# Altium footprint library parts.PCBLIB: 93 footprints (part 3 of 6)
Each footprint in its own frame and in the unit in brackets; x right, y up, seen from the top. Pads: shape width x height; smd on the part's side, far side on the other; paste and mask are expansions set on the pad; w line width, h text height; cw(c..) or ccw(c..) is an arc to the next point about the centre after c.
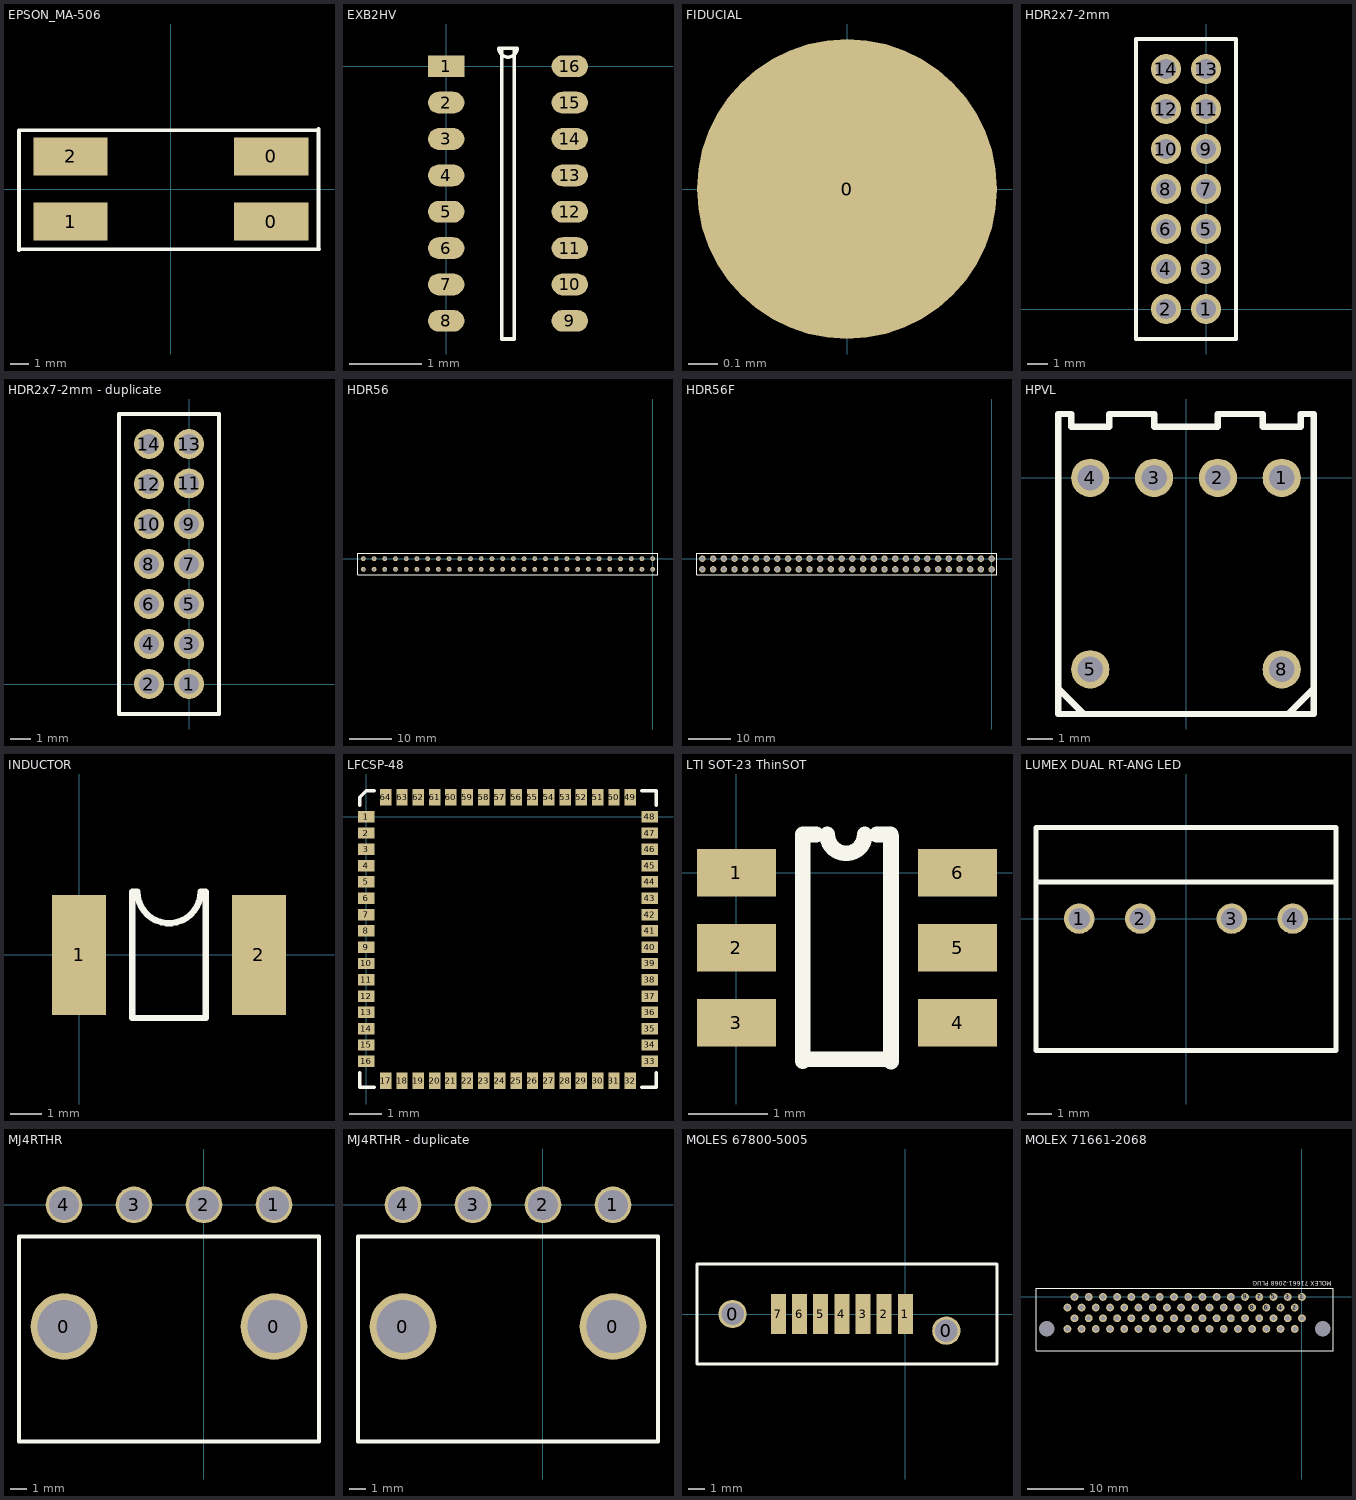
[diagram p2: the footprints below, top view; thin cyan lines are the x and y axes]

## EPSON_MA-506 [mm]
pads (4):
  rect 4.1x2.1 smd: 0(5.55,-1.8) 0(5.55,1.8) 1(-5.55,-1.8) 2(-5.55,1.8)
TopOverlay:
  lines w0.203: -8.41,-3.38 -8.41,3.25 8.08,3.25 8.16,3.33 8.16,-3.3 8.19,-3.33 -8.36,-3.33 -8.41,-3.38

## EXB2HV [mm]
pads (16):
  rect 0.5x0.3 smd: 1(0,0)
  oval 0.5x0.3 smd: 2(0,-0.5) 3(0,-1) 4(0,-1.5) 5(0,-2) 6(0,-2.5) 7(0,-3) 8(0,-3.5) 9(1.7,-3.5) 10(1.7,-3) 11(1.7,-2.5) 12(1.7,-2) 13(1.7,-1.5) 14(1.7,-1) 15(1.7,-0.5) 16(1.7,0)
TopOverlay:
  lines w0.05: 0.725,0.25 ccw(c0.85,0.25) 0.975,0.25 0.765,0.25 0.765,-3.75 0.935,-3.75 0.935,0.25 0.725,0.25

## FIDUCIAL [mil] "Fiducial footprint as recommended by PCBpro"
pads (1):
  round 40 smd paste-20 mask+30: 0(0,0)

## HDR2x7-2mm [mm]
pads (14):
  round 1.5 hole 1: 1(0,0) 2(-2,0) 3(0,2) 4(-2,2) 5(0,4) 6(-2,4) 7(0,6) 8(-2,6) 9(0,8) 10(-2,8) 11(0,10) 12(-2,10) 13(0,12) 14(-2,12)
TopOverlay:
  lines w0.2: -3.5,-1.5 -3.5,13.5 1.5,13.5 1.5,-1.5 -3.5,-1.5

## HDR2x7-2mm - duplicate [mm]
pads (14):
  round 1.5 hole 1: 1(0,0) 2(-2,0) 3(0,2) 4(-2,2) 5(0,4) 6(-2,4) 7(0,6) 8(-2,6) 9(0,8) 10(-2,8) 11(0,10.033) 12(-2,10) 13(0,12) 14(-2,12)
TopOverlay:
  lines w0.2: -3.5,-1.5 -3.5,13.5 1.5,13.5 1.5,-1.5 -3.5,-1.5

## HDR56 [mil]
pads (56):
  round 45 hole 28: 1(0,0) 2(0,-100) 3(-100,0) 4(-100,-100) 5(-200,0) 6(-200,-100) 7(-300,0) 8(-300,-100) 9(-400,0) 10(-400,-100) 11(-500,0) 12(-500,-100) 13(-600,0) 14(-600,-100) 15(-700,0) 16(-700,-100) 17(-800,0) 18(-800,-100) 19(-900,0) 20(-900,-100) 21(-1000,0) 22(-1000,-100) 23(-1100,0) 24(-1100,-100) 25(-1200,0) 26(-1200,-100) 27(-1300,0) 28(-1300,-100) 29(-1400,0) 30(-1400,-100) 31(-1500,0) 32(-1500,-100) 33(-1600,0) 34(-1600,-100) 35(-1700,0) 36(-1700,-100) 37(-1800,0) 38(-1800,-100) 39(-1900,0) 40(-1900,-100) 41(-2000,0) 42(-2000,-100) 43(-2100,0) 44(-2100,-100) 45(-2200,0) 46(-2200,-100) 47(-2300,0) 48(-2300,-100) 49(-2400,0) 50(-2400,-100) 51(-2500,0) 52(-2500,-100) 53(-2600,0) 54(-2600,-100) 55(-2700,0) 56(-2700,-100)
TopOverlay:
  lines w10: -2750,-150 -2750,50 50,50 50,-150 -2750,-150

## HDR56F [mil]
pads (56):
  round 60 hole 40: 1(0,-100) 2(0,0) 3(-100,-100) 4(-100,0) 5(-200,-100) 6(-200,0) 7(-300,-100) 8(-300,0) 9(-400,-100) 10(-400,0) 11(-500,-100) 12(-500,0) 13(-600,-100) 14(-600,0) 15(-700,-100) 16(-700,0) 17(-800,-100) 18(-800,0) 19(-900,-100) 20(-900,0) 21(-1000,-100) 22(-1000,0) 23(-1100,-100) 24(-1100,0) 25(-1200,-100) 26(-1200,0) 27(-1300,-100) 28(-1300,0) 29(-1400,-100) 30(-1400,0) 31(-1500,-100) 32(-1500,0) 33(-1600,-100) 34(-1600,0) 35(-1700,-100) 36(-1700,0) 37(-1800,-100) 38(-1800,0) 39(-1900,-100) 40(-1900,0) 41(-2000,-100) 42(-2000,0) 43(-2100,-100) 44(-2100,0) 45(-2200,-100) 46(-2200,0) 47(-2300,-100) 48(-2300,0) 49(-2400,-100) 50(-2400,0) 51(-2500,-100) 52(-2500,0) 53(-2600,-100) 54(-2600,0) 55(-2700,0) 56(-2700,-100)
TopOverlay:
  lines w10: -2750,-150 50,-150 50,50 -2750,50 -2750,-150

## HPVL [mil]
pads (6):
  round 60 hole 40: 1(150,0) 2(50,0) 3(-50,0) 4(-150,0) 5(-150,-300) 8(150,-300)
TopOverlay:
  lines w10: -200,-340 -200,0 ; -200,-330 -160,-370 ; -200,-300 -200,-370 200,-370 200,-340 200,0 200,100 180,100 180,80 120,80 120,100 50,100 50,80 -50,80 -50,100 -120,100 -120,80 -180,80 -180,100 -200,100 -200,-10 ; 160,-370 200,-330

## INDUCTOR [mm]
pads (2):
  rect 1.7x3.8 smd: 1(0,0) 2(5.7,0)
TopOverlay:
  lines w0.2: 1.685,-2 1.685,2 1.85,2 ccw(c2.85,2) 3.85,2 4.015,2 4.015,-2 1.685,-2

## LFCSP-48 [mm] "Lead-Frame Chip Scale Package, 48 pin, from Analog Devices"
pads (64):
  rect 0.5x0.35 smd: 1(0,0) 2(0,-0.5) 3(0,-1) 4(0,-1.5) 5(0,-2) 6(0,-2.5) 7(0,-3) 8(0,-3.5) 9(0,-4) 10(0,-4.5) 11(0,-5) 12(0,-5.5) 13(0,-6) 14(0,-6.5) 15(0,-7) 16(0,-7.5) 33(8.7,-7.5) 34(8.7,-7) 35(8.7,-6.5) 36(8.7,-6) 37(8.7,-5.5) 38(8.7,-5) 39(8.7,-4.5) 40(8.7,-4) 41(8.7,-3.5) 42(8.7,-3) 43(8.7,-2.5) 44(8.7,-2) 45(8.7,-1.5) 46(8.7,-1) 47(8.7,-0.5) 48(8.7,0)
  rect 0.35x0.5 smd: 17(0.6,-8.1) 18(1.1,-8.1) 19(1.6,-8.1) 20(2.1,-8.1) 21(2.6,-8.1) 22(3.1,-8.1) 23(3.6,-8.1) 24(4.1,-8.1) 25(4.6,-8.1) 26(5.1,-8.1) 27(5.6,-8.1) 28(6.1,-8.1) 29(6.6,-8.1) 30(7.1,-8.1) 31(7.6,-8.1) 32(8.1,-8.1) 49(8.1,0.6) 50(7.6,0.6) 51(7.1,0.6) 52(6.6,0.6) 53(6.1,0.6) 54(5.6,0.6) 55(5.1,0.6) 56(4.6,0.6) 57(4.1,0.6) 58(3.6,0.6) 59(3.1,0.6) 60(2.6,0.6) 61(2.1,0.6) 62(1.6,0.6) 63(1.1,0.6) 64(0.6,0.6)
TopOverlay:
  lines w0.1: -0.2,-7.85 -0.2,-8.3 0.25,-8.3 ; -0.2,0.35 -0.2,0.6 0,0.8 0.25,0.8 ; 8.45,-8.3 8.9,-8.3 8.9,-7.85 ; 8.45,0.8 8.9,0.8 8.9,0.35

## LTI SOT-23 ThinSOT [mm]
pads (6):
  rect 1x0.6 smd: 1(0,0) 2(0,-0.95) 3(0,-1.9) 4(2.8,-1.9) 5(2.8,-0.95) 6(2.8,0)
TopOverlay:
  lines w0.2: 0.838,-2.388 0.838,0.462 ; 0.838,-2.362 1.956,-2.362 ; 0.838,0.483 1.011,0.483 ; 1.151,0.483 ccw(c1.388,0.483) 1.626,0.483 ; 1.778,0.483 1.95,0.483 ; 1.956,-2.393 1.956,0.457

## LUMEX DUAL RT-ANG LED [mil] "Lumex Dual Right-angle LED holder for part SSF-LXH2100XX"
pads (4):
  round 50 hole 35: 1(-175.2,0) 2(-75,0) 3(75,0) 4(175.2,0)
TopOverlay:
  lines w8: -246.06,60 246.06,60 ; -246.06,-216.54 246.06,-216.54 246.06,149.61 -246.06,149.61 -246.06,-216.54

## MJ4RTHR [mm]
pads (6):
  round 4 hole 3.2: 0(-8.4,-7.3) 0(4.2,-7.3)
  round 2.2 hole 1.8: 1(4.2,0) 2(0,0) 3(-4.2,0) 4(-8.4,0)
TopOverlay:
  lines w0.254: -11.1,-14.2 -11.1,-1.9 6.9,-1.9 6.9,-14.2 -11.1,-14.2

## MJ4RTHR - duplicate [mm]
pads (6):
  round 4 hole 3.2: 0(-8.4,-7.3) 0(4.2,-7.3)
  round 2.2 hole 1.8: 1(4.2,0) 2(0,0) 3(-4.2,0) 4(-8.4,0)
TopOverlay:
  lines w0.254: -11.1,-14.2 6.9,-14.2 6.9,-1.9 -11.1,-1.9 -11.1,-14.2

## MOLES 67800-5005 [mm] "SATA vertical PCB HEADER SMT"
pads (9):
  round 1.7 hole 1.35: 0(-10.37,0) 0(2.46,-1)
  rect 0.9x2.4 smd: 1(0,0) 2(-1.27,0) 3(-2.54,0) 4(-3.81,0) 5(-5.08,0) 6(-6.35,0) 7(-7.62,0)
TopOverlay:
  lines w0.178: -12.5,-3 -12.5,3 5.5,3 5.5,-3 ; -12.5,-3 5.5,-3 ; -12.5,-3 5.5,-3

## MOLEX 71661-2068 [mil] "Moles 68-pin EBBI 50 mil right angle plug connector, same as U320 SCSI"
pads (70):
  round 46 hole 110: 0(-1796,-225) 0(146,-225)
  round 55 hole 35: 1(0,0) 2(-50,-75) 3(-100,0) 4(-150,-75) 5(-200,0) 6(-250,-75) 7(-300,0) 8(-350,-75) 9(-400,0) 10(-450,-75) 11(-500,0) 12(-550,-75) 13(-600,0) 14(-650,-75) 15(-700,0) 16(-750,-75) 17(-800,0) 18(-850,-75) 19(-900,0) 20(-950,-75) 21(-1000,0) 22(-1050,-75) 23(-1100,0) 24(-1150,-75) 25(-1200,0) 26(-1250,-75) 27(-1300,0) 28(-1350,-75) 29(-1400,0) 30(-1450,-75) 31(-1500,0) 32(-1550,-75) 33(-1600,0) 34(-1650,-75) 35(0,-150) 36(-50,-225) 37(-100,-150) 38(-150,-225) 39(-200,-150) 40(-250,-225) 41(-300,-150) 42(-350,-225) 43(-400,-150) 44(-450,-225) 45(-500,-150) 46(-550,-225) 47(-600,-150) 48(-650,-225) 49(-700,-150) 50(-750,-225) 51(-800,-150) 52(-850,-225) 53(-900,-150) 54(-950,-225) 55(-1000,-150) 56(-1050,-225) 57(-1100,-150) 58(-1150,-225) 59(-1200,-150) 60(-1250,-225) 61(-1300,-150) 62(-1350,-225) 63(-1400,-150) 64(-1450,-225) 65(-1500,-150) 66(-1550,-225) 67(-1600,-150) 68(-1650,-225)
TopOverlay:
  lines w8: -1871,-380.12 221,-380.12 221,60 -1871,60 -1871,-380.12
  text "MOLEX 71661-2068 PLUG" at 210,110 h30